# Altium footprint library CONNECTOR.PCBLIB: 232 footprints (part 11 of 15)
Each footprint in its own frame and in the unit in brackets; x right, y up, seen from the top. Pads: shape width x height; smd on the part's side, far side on the other; paste and mask are expansions set on the pad; w line width, h text height; cw(c..) or ccw(c..) is an arc to the next point about the centre after c.
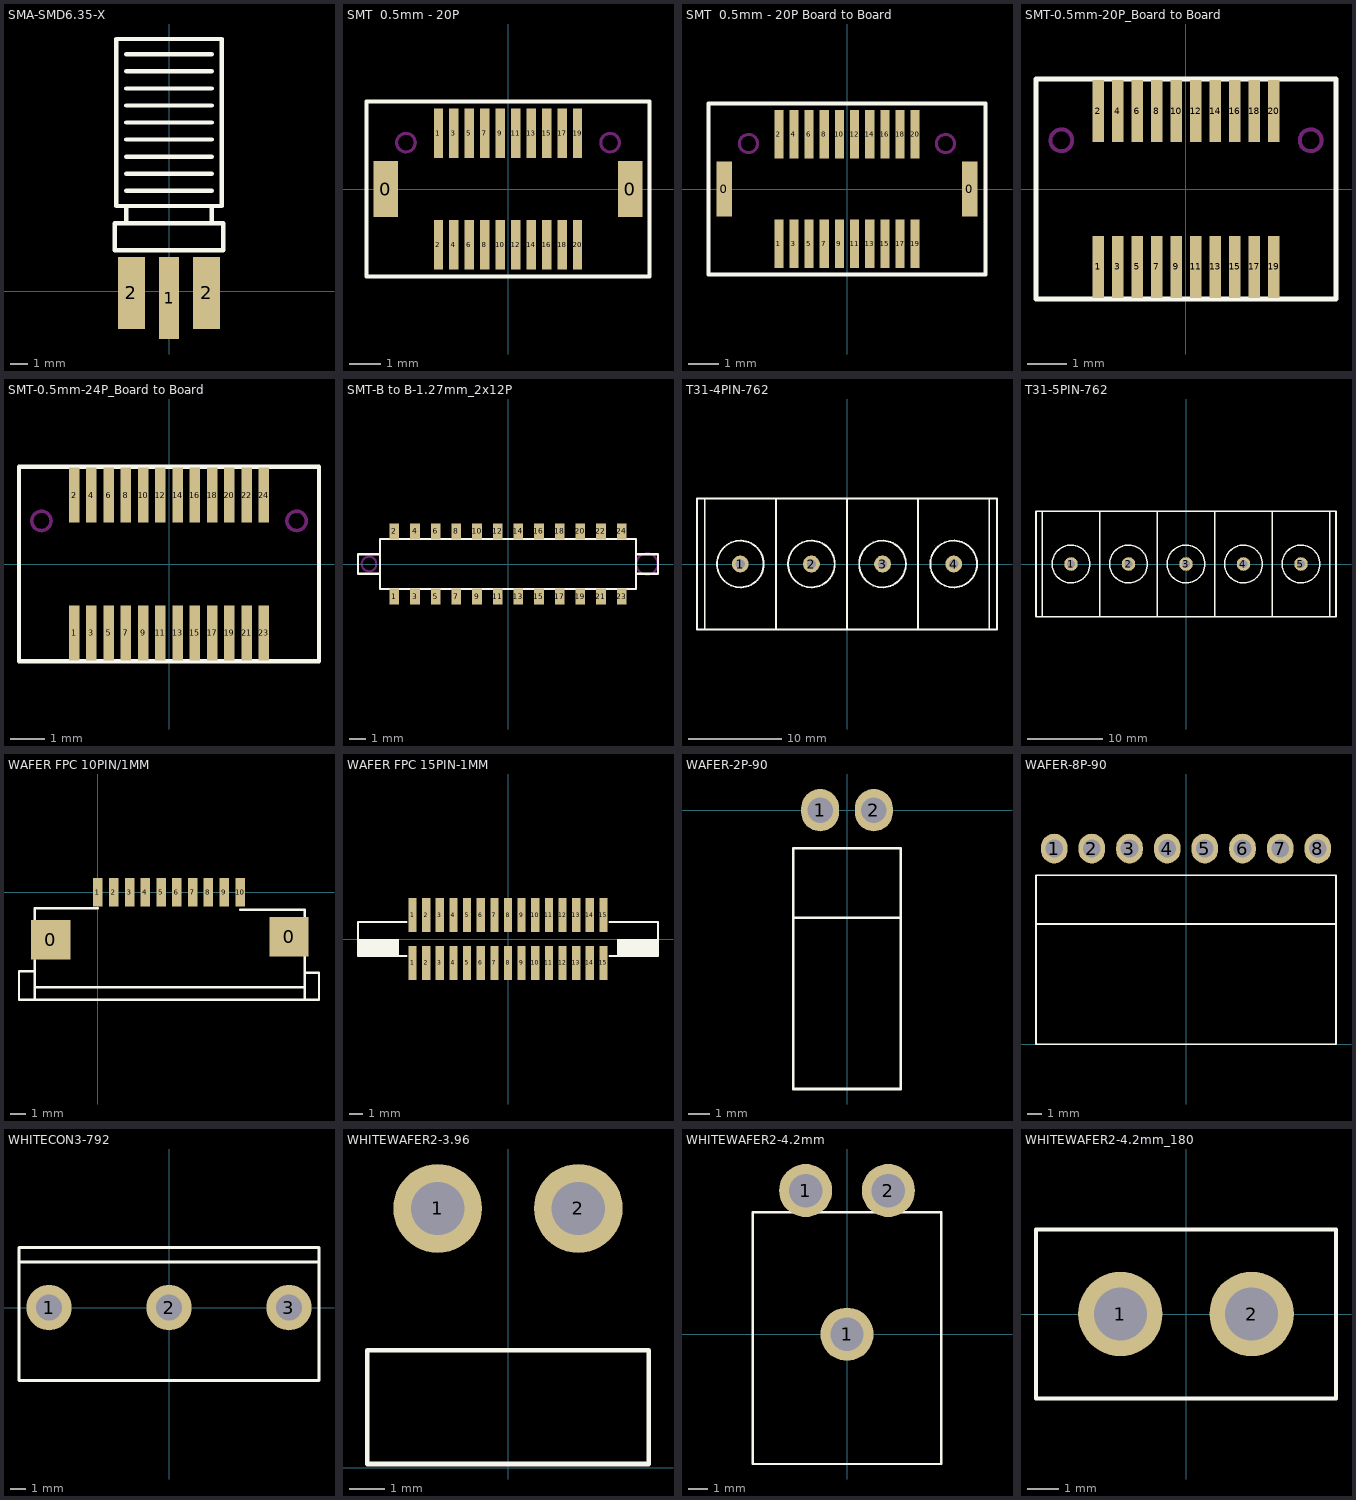
[diagram p10: the footprints below, top view; thin cyan lines are the x and y axes]

## SMA-SMD6.35-X [mm]
pads (3):
  rect 1.2x4.8 smd: 1(0,-0.4)
  rect 1.6x4.2 all layers, no hole: 2(-2.2,-0.1) 2(2.2,-0.1)
TopOverlay:
  lines w0.254: -2.5,4 -2.5,5 ; -2.5,5.9 2.5,5.9 ; -2.5,6.9 2.5,6.9 ; -2.5,7.9 2.5,7.9 ; -2.5,8.9 2.5,8.9 ; -2.5,9.9 2.5,9.9 ; -2.5,10.9 2.5,10.9 ; -2.5,11.9 2.5,11.9 ; -2.5,12.9 2.5,12.9 ; -2.5,13.9 2.5,13.9 ; 2.5,4 2.5,5 ; -3.175,2.4 -3.175,4 3.175,4 3.175,2.4 -3.175,2.4 ; -3.1,5 -3.1,14.8 3.1,14.8 3.1,5 -3.1,5

## SMT  0.5mm - 20P [mm] "SMT  0.5mm - 20P"
pads (22):
  rect 0.8x1.8 smd: 0(-3.95,0) 0(3.95,0)
  rect 0.3x1.6 smd: 1(-2.25,1.8) 2(-2.25,-1.8) 3(-1.75,1.8) 4(-1.75,-1.8) 5(-1.25,1.8) 6(-1.25,-1.8) 7(-0.75,1.8) 8(-0.75,-1.8) 9(-0.25,1.8) 10(-0.25,-1.8) 11(0.25,1.8) 12(0.25,-1.8) 13(0.75,1.8) 14(0.75,-1.8) 15(1.25,1.8) 16(1.25,-1.8) 17(1.75,1.8) 18(1.75,-1.8) 19(2.25,1.8) 20(2.25,-1.8)
TopOverlay:
  lines w0.127: -4.575,-2.825 -4.575,2.825 4.575,2.825 4.575,-2.825 -4.575,-2.825
KeepOutLayer:
  circle w0.1: c3.3,1.5 r0.3
  circle w0.1: c-3.3,1.5 r0.3

## SMT  0.5mm - 20P Board to Board [mm] "SMT  0.5mm - 20P Board to Board"
pads (22):
  rect 0.5x1.8 smd: 0(-4.05,0) 0(4.05,0)
  rect 0.3x1.6 smd: 1(-2.25,-1.8) 2(-2.25,1.8) 3(-1.75,-1.8) 4(-1.75,1.8) 5(-1.25,-1.8) 6(-1.25,1.8) 7(-0.75,-1.8) 8(-0.75,1.8) 9(-0.25,-1.8) 10(-0.25,1.8) 11(0.25,-1.8) 12(0.25,1.8) 13(0.75,-1.8) 14(0.75,1.8) 15(1.25,-1.8) 16(1.25,1.8) 17(1.75,-1.8) 18(1.75,1.8) 19(2.25,-1.8) 20(2.25,1.8)
TopOverlay:
  lines w0.127: -4.575,-2.825 4.575,-2.825 4.575,2.825 -4.575,2.825 -4.575,-2.825
KeepOutLayer:
  circle w0.1: c-3.25,1.5 r0.3
  circle w0.1: c3.25,1.5 r0.3

## SMT-0.5mm-20P_Board to Board [mm] "SMT-0.5mm-20P_Board to Board"
pads (20):
  rect 0.3x1.6 smd: 1(-2.25,-2) 2(-2.25,2) 3(-1.75,-2) 4(-1.75,2) 5(-1.25,-2) 6(-1.25,2) 7(-0.75,-2) 8(-0.75,2) 9(-0.25,-2) 10(-0.25,2) 11(0.25,-2) 12(0.25,2) 13(0.75,-2) 14(0.75,2) 15(1.25,-2) 16(1.25,2) 17(1.75,-2) 18(1.75,2) 19(2.25,-2) 20(2.25,2)
TopOverlay:
  lines w0.127: -3.85,-2.825 3.85,-2.825 3.85,2.825 -3.85,2.825 -3.85,-2.825
KeepOutLayer:
  circle w0.1: c-3.2,1.25 r0.28
  circle w0.1: c3.2,1.25 r0.28

## SMT-0.5mm-24P_Board to Board [mm] "SMT-0.5mm-24P_Board to Board"
pads (24):
  rect 0.3x1.6 smd: 1(-2.75,-2) 2(-2.75,2) 3(-2.25,-2) 4(-2.25,2) 5(-1.75,-2) 6(-1.75,2) 7(-1.25,-2) 8(-1.25,2) 9(-0.75,-2) 10(-0.75,2) 11(-0.25,-2) 12(-0.25,2) 13(0.25,-2) 14(0.25,2) 15(0.75,-2) 16(0.75,2) 17(1.25,-2) 18(1.25,2) 19(1.75,-2) 20(1.75,2) 21(2.25,-2) 22(2.25,2) 23(2.75,-2) 24(2.75,2)
TopOverlay:
  lines w0.127: -4.35,-2.825 4.35,-2.825 4.35,2.825 -4.35,2.825 -4.35,-2.825
KeepOutLayer:
  circle w0.1: c-3.7,1.25 r0.28
  circle w0.1: c3.7,1.25 r0.28

## SMT-B to B-1.27mm_2x12P [mm] "SMT-B to B-1.27mm_2x12P"
pads (24):
  rect 0.6x1 smd: 1(-6.985,-2) 2(-6.985,2) 3(-5.715,-2) 4(-5.715,2) 5(-4.445,-2) 6(-4.445,2) 7(-3.175,-2) 8(-3.175,2) 9(-1.905,-2) 10(-1.905,2) 11(-0.635,-2) 12(-0.635,2) 13(0.635,-2) 14(0.635,2) 15(1.905,-2) 16(1.905,2) 17(3.175,-2) 18(3.175,2) 19(4.445,-2) 20(4.445,2) 21(5.715,-2) 22(5.715,2) 23(6.985,-2) 24(6.985,2)
TopOverlay:
  lines w0.127: -7.87,-0.6 -9.22,-0.6 -9.22,0.6 -7.87,0.6 ; 7.87,-0.6 9.22,-0.6 9.22,0.6 7.87,0.6 ; -7.87,-1.55 7.87,-1.55 7.87,1.55 -7.87,1.55 -7.87,-1.55
KeepOutLayer:
  circle w0.127: c8.545,0 r0.65
  circle w0.127: c-8.545,0 r0.45

## T31-4PIN-762 [mm]
pads (4):
  round 1.8 hole 1: 1(-11.43,0) 2(-3.81,0) 3(3.81,0) 4(11.43,0)
TopOverlay:
  circle w0.2: c-11.43,0 r2.5
  circle w0.2: c-3.81,0 r2.5
  circle w0.2: c11.43,0 r2.5
  circle w0.2: c3.81,0 r2.5
  lines w0.2: -15.24,-7 -15.24,7 ; -7.62,-7 -7.62,7 ; 0,-7 0,7 ; 7.62,-7 7.62,7 ; 15.24,-7 15.24,7 ; -16.07,-7 -16.07,7 16.07,7 16.07,-7 -16.07,-7

## T31-5PIN-762 [mm]
pads (5):
  round 1.8 hole 1: 1(-15.24,0) 2(-7.62,0) 3(0,0) 4(7.62,0) 5(15.24,0)
TopOverlay:
  circle w0.2: c15.24,0 r2.5
  circle w0.2: c0,0 r2.5
  circle w0.2: c7.62,0 r2.5
  circle w0.2: c-7.62,0 r2.5
  circle w0.2: c-15.24,0 r2.5
  lines w0.2: -19.05,-7 -19.05,7 ; -11.43,-7 -11.43,7 ; -3.81,-7 -3.81,7 ; 3.81,-7 3.81,7 ; 11.43,-7 11.43,7 ; 19.05,-7 19.05,7 ; -19.88,-7 19.88,-7 19.88,7 -19.88,7 -19.88,-7

## WAFER FPC 10PIN/1MM [mm]
pads (12):
  rect 2.5x2.5 smd: 0(-3,-3) 0(12.1,-2.8)
  rect 0.6x1.8 smd: 1(0,0) 2(1,0) 3(2,0) 4(3,0) 5(4,0) 6(5,0) 7(6,0) 8(7,0) 9(8,0) 10(9,0)
TopOverlay:
  lines w0.152: -4,-6.75 -4,-4.3 ; -4,-6 13.1,-6 ; -4,-5 -5,-5 -5,-6.8 14,-6.8 14,-5.1 13.1,-5.1 ; -4,-1.8 -4,-1 0,-1 ; 9,-1.1 13,-1.1 ; 13.1,-6.7 13.1,-5 13.1,-3.9 ; 13.1,-1.9 13.1,-1.1

## WAFER FPC 15PIN-1MM [mm]
pads (30):
  rect 0.6x2.5 smd: 1(-7,-1.75) 1(-7,1.75) 2(-6,-1.75) 2(-6,1.75) 3(-5,-1.75) 3(-5,1.75) 4(-4,-1.75) 4(-4,1.75) 5(-3,-1.75) 5(-3,1.75) 6(-2,1.75) 6(-2,-1.75) 7(-1,1.75) 7(-1,-1.75) 8(0,1.75) 8(0,-1.75) 9(1,1.75) 9(1,-1.75) 10(2,1.75) 10(2,-1.75) 11(3,1.75) 11(3,-1.75) 12(4,1.75) 12(4,-1.75) 13(5,-1.75) 13(5,1.75) 14(6,-1.75) 14(6,1.75) 15(7,-1.75) 15(7,1.75)
TopOverlay:
  rectangle: -11,-1.2 -8,0
  rectangle: 8,-1.25 11,0
  lines w0.127: -7.45,-1.25 -11,-1.25 -11,1.25 -7.45,1.25 ; 7.45,-1.25 11,-1.25 11,1.25 7.45,1.25

## WAFER-2P-90 [mm]
pads (2):
  oval 1.8x2 hole 1.2: 1(-1.27,0) 2(1.27,0)
TopOverlay:
  lines w0.127: -2.54,-5.1 -2.54,-13.2 2.54,-13.2 2.54,-5.1 ; -2.54,-5.1 -2.54,-1.8 2.54,-1.8 2.54,-5.1 ; -2.54,-5.1 2.54,-5.1

## WAFER-8P-90 [mm]
pads (8):
  oval 1.8x2 hole 1.2: 1(-8.89,13.2) 2(-6.35,13.2) 3(-3.81,13.2) 4(-1.27,13.2) 5(1.27,13.2) 6(3.81,13.2) 7(6.35,13.2) 8(8.89,13.2)
TopOverlay:
  lines w0.127: -10.115,8.1 10.115,8.1 ; -10.115,8.1 -10.115,11.4 10.115,11.4 10.115,8.1 ; -10.115,8.1 -10.115,0 10.115,0 10.115,8.1

## WHITECON3-792 [mm]
pads (3):
  round 3 hole 1.7: 1(-7.92,0) 2(0,0) 3(7.92,0)
TopOverlay:
  lines w0.2: -9.9,3 9.9,3 ; -9.9,-4.8 -9.9,3.95 9.9,3.95 9.9,-4.8 -9.9,-4.8

## WHITEWAFER2-3.96 [mm] "WHITEWAFER2-3.96"
pads (2):
  round 2.5 hole 1.5: 1(-1.98,7.3) 2(1.98,7.3)
TopOverlay:
  lines w0.127: -3.96,0.1 -3.96,3.3 3.96,3.3 3.96,0.1 -3.96,0.1

## WHITEWAFER2-4.2mm [mm] "WHITEWAFER2-4.2mm"
pads (3):
  round 2.7 hole 1.7: 1(-2.1,7.3) 1(0,0) 2(2.1,7.3)
TopOverlay:
  lines w0.127: -4.8,-6.6 4.8,-6.6 4.8,6.2 -4.8,6.2 -4.8,-6.6

## WHITEWAFER2-4.2mm_180 [mm] "WHITEWAFER2-4.2mm_180"
pads (2):
  round 2.7 hole 1.7: 1(-2.1,0) 2(2.1,0)
TopOverlay:
  lines w0.127: -4.8,-2.7 -4.8,2.7 4.8,2.7 4.8,-2.7 -4.8,-2.7